# Altium footprint library 2020-01-21_20-47-02.PcbLib: 1 footprints
Each footprint in its own frame and in the unit in brackets; x right, y up, seen from the top. Pads: shape width x height; smd on the part's side, far side on the other; paste and mask are expansions set on the pad; w line width, h text height; cw(c..) or ccw(c..) is an arc to the next point about the centre after c.
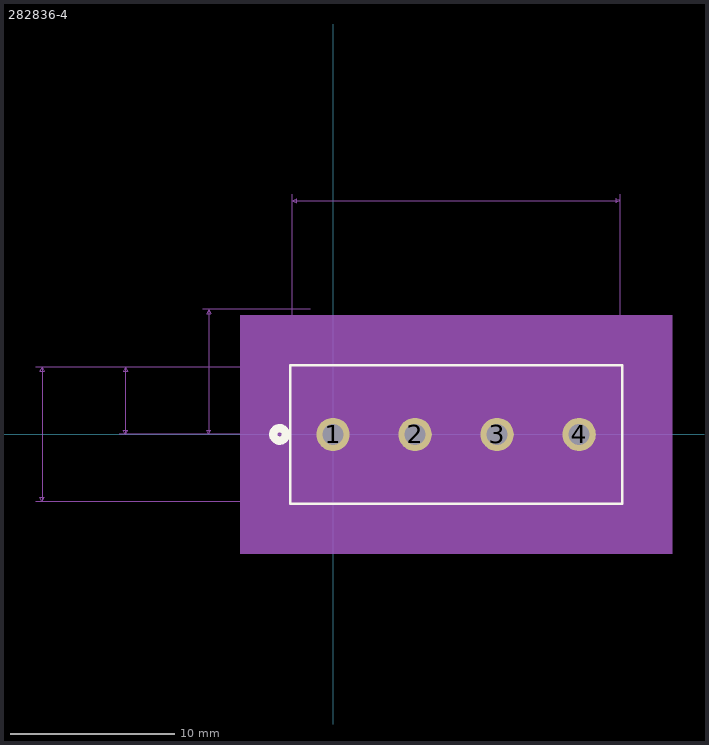
[diagram p0: the footprint, top view; thin cyan lines are the x and y axes]

## 282836-4 [mil]
pads (4):
  round 80 hole 50: 1(0,0) 2(196.85,0) 3(393.7,0) 4(590.55,0)
Top Overlay:
  circle w20: c-128.22,0 r15
  lines w6: -103.22,-166 693.78,-166 693.78,166 -103.22,166 -103.22,-166
Bottom Overlay:
  circle w20: c-128.22,0 r15
Mechanical 5:
  region: -223.22,286 813.78,286 813.78,-286 -223.22,-286
Mechanical 7:
  lines w1: -713.22,-161 -98.22,-161 ; -713.22,161 -98.22,161 ; -513.22,0 295.28,0 ; -513.22,161 -98.22,161 ; -313.22,0 295.28,0 ; -313.22,300 -54.72,300 ; -213.22,-100 -154.72,-100 ; -213.22,0 295.28,0 ; -198.22,-150 -198.22,-100 ; -198.22,50 -198.22,0 ; -98.22,576 -98.22,161 ; 0,0 0,276 ; 196.85,0 196.85,276 ; 688.78,161 688.78,576 ; 788.78,-50 788.78,0 ; 788.78,50 788.78,0 ; -698.22,-161 -698.22,161 ; -698.22,-161 -703.22,-151 -693.22,-151 -698.22,-161 ; -698.22,161 -703.22,151 -693.22,151 -698.22,161 ; -498.22,0 -498.22,161 ; -498.22,0 -503.22,10 -493.22,10 -498.22,0 ; -498.22,161 -503.22,151 -493.22,151 -498.22,161 ; -298.22,0 -298.22,300 ; -298.22,0 -303.22,10 -293.22,10 -298.22,0 ; -298.22,300 -303.22,290 -293.22,290 -298.22,300 ; -198.22,-100 -203.22,-110 -193.22,-110 -198.22,-100 ; -198.22,0 -203.22,10 -193.22,10 -198.22,0 ; -98.22,561 688.78,561 ; -98.22,561 -88.22,566 -88.22,556 -98.22,561 ; 0,261 196.85,261 ; 0,261 10,266 10,256 0,261 ; 196.85,261 186.85,266 186.85,256 196.85,261 ; 688.78,561 678.78,566 678.78,556 688.78,561 ; 788.78,0 783.78,10 793.78,10 788.78,0 ; 788.78,0 783.78,-10 793.78,-10 788.78,0 ; 590.55,0 803.78,0 590.55,0
  text "Default Padstyle: EX80Y80D50P" at -67.22,-311 h50
  text "1st Mtg Padstyle: RX80Y80D50P" at -67.22,-386 h50
  text "2nd Mtg Padstyle: EX70Y70D70P" at -67.22,-461 h50
  text "3rd Mtg Padstyle: EX70Y70D70P" at -67.22,-536 h50
  text "Left Mtg Padstyle: EX60Y60D30P" at -79.72,-611 h50
  text "Right Mtg Padstyle: EX60Y60D30P" at -92.22,-686 h50
  text "Alt Padstyle 1: OX60Y90D30P" at -42.22,-761 h50
  text "Alt Padstyle 2: OX90Y60D30P" at -42.22,-836 h50
  text "0.1968504in/5mm" at 4.68,281 h25
  text "0.787in/19.99mm" at 201.53,581 h25
  text "0in/0mm" at 808.78,-12.5 h25
  text "0in/0mm" at -305.72,-62.5 h25
  text "0.3in/7.62mm" at -468.22,137.5 h25
  text "0.161in/4.089mm" at -705.72,68 h25
  text "0.322in/8.179mm" at -905.72,-12.5 h25
Mechanical 13:
  circle w20: c0,75 r15
  lines w1: -98.22,-161 688.78,-161 688.78,161 -98.22,161 -98.22,-161
Mechanical 15:
  region: 698.78,171 -108.22,171 -108.22,-171 698.78,-171
  lines w6: -108.22,-171 -108.22,171 698.78,171 698.78,-171 -108.22,-171
3D body: height 10, standoff 0, extent 0,0 10,10